# EAGLE library part DSHP04TSGER (library Seeed-OPL-2017-01-Switch-camilo)
311080066
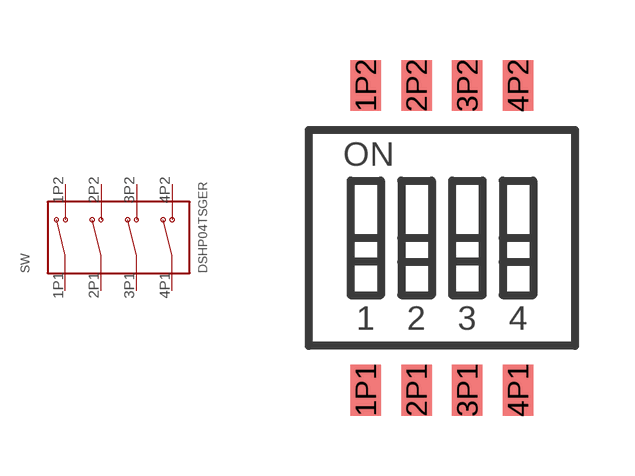
[diagram p1: symbol with the pads of DSHP04TSGER; footprint DSHP04TSGER]

Designator prefix SW

## DSHP04TSGER  [DSHP04TSGER]
1P1  1P1
1P2  1P2
2P1  2P1
2P2  2P2
3P1  3P1
3P2  3P2
4P1  4P1
4P2  4P2

## Footprint DSHP04TSGER (pad centres in mm)
smd 0.76 x 1.27: 1P1 -1.905,-3.81; 1P2 -1.905,3.81; 2P1 -0.635,-3.81; 2P2 -0.635,3.81; 3P1 0.635,-3.81; 3P2 0.635,3.81; 4P1 1.905,-3.81; 4P2 1.905,3.81